# Altium schematic symbol library OT_LoRaWAN_Kit_01.SchLib: 16 symbols
Pins are listed as number, name and electrical type; pins without a type are passive.

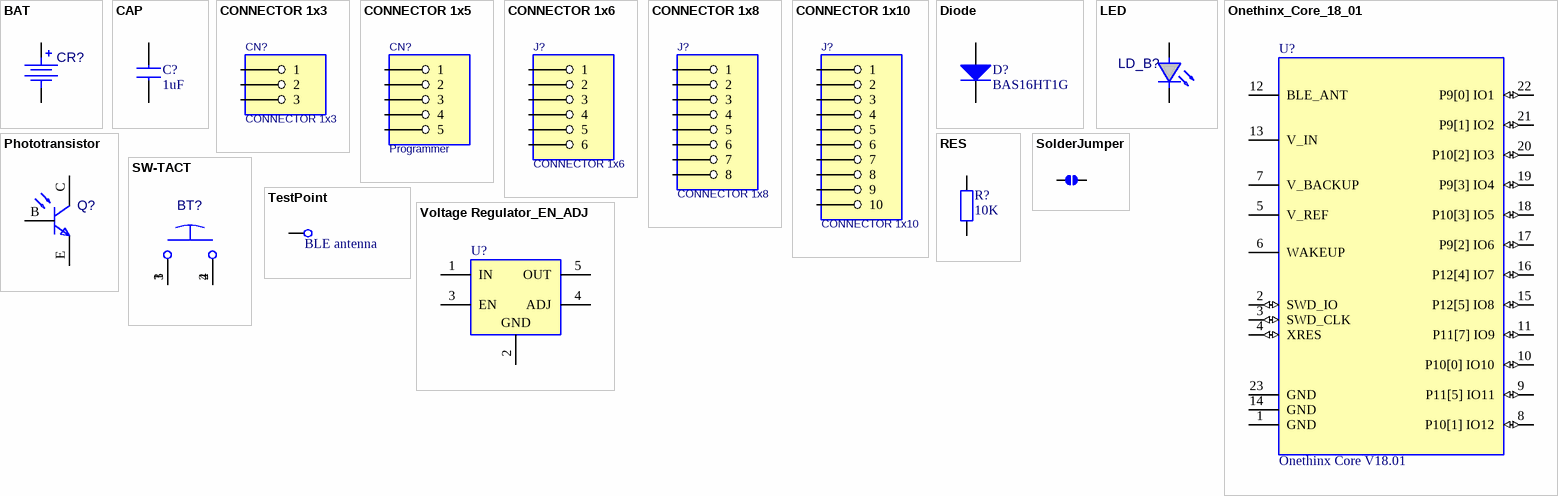
[diagram p0: symbols BAT to Voltage Regulator_EN_ADJ]

## BAT
designator CR?  (value not drawn)
Battery
footprint BATT_2032 clip (Battery CR2032 clip)
footprint BATT_18650 (Battery 18650 w/tabs)
footprint BATT_18650 SMD (Battery 18650 SMD w/tabs)
footprint BATT_651625 SMD (Battery 651625 SMD w/tabs)
footprint BAT_CP1254_Hole (Lithium Coin Cell 3.7V)
footprint BATT_2450 clip (Battery CR2450 clip)
footprint BATT_2450 clip - TH (Battery CR2450 clip)
pins: MINUS Minus, PLUS Plus

## CAP
designator C?, comment 1uF
Capacitor
footprint 0805C-GENERIC (CAPACITOR 0805)
footprint 0402C-SMALL (CAPACITOR 0402 Small Land Pattern)
footprint 1206C-GENERIC
footprint 1210C-GENERIC (CAPACITOR 1210)
footprint CAP_MKP_15 (Capacitor 15mm 17.5x7x13.5)
footprint CAP TH 200mil (Capacitor Through Hole 200mil Pitch)
footprint 0603C-GENERIC (CAPACITOR 0603)
pins: 1, 2

## CONNECTOR 1x3
designator CN?
Harwin M20-9990345
footprint HEADER 2.54 1X3 SMD R1
footprint HEADER 2.54 1X3 SMD R2
footprint SOCKET 2.54 1X3 SMD R1
footprint SOCKET 2.54 1X3 SMD R2
footprint CON JST B3P-VH (3 way 3.96mm)
footprint HEADER-1X3
footprint CON_AMPMODU 3p (CON_AMPMODU 3p 281695-3)
footprint PCB TERMINAL 3P_3.5mm
footprint PCB TERMINAL 3P_5.08mm
pins: 1, 2, 3

## CONNECTOR 1x5
designator CN?, comment Programmer
CON Molex 22053051
footprint HEADER 2.54 1X5 SMD R1 (HEADER 2.54 1X3 SMD R1)
footprint HEADER 2.54 1X5 SMD R2
footprint SOCKET 2.54 1X5 SMD R1
footprint SOCKET 2.54 1X5 SMD R2
footprint CON AK100/5DS-5.0-V (PCB terminal PTR AK100/5DS-5.0-V)
footprint CON 2MM P5_Straight_Boxed_TH
footprint HEADER 2.00 1x5 TH
footprint HEADER-1X5
footprint CON Molex 22053051 (5 way 2.54mm RA TH)
pins: 1, 2, 3, 4, 5

## CONNECTOR 1x6
designator J?
footprint Molex 908160006
footprint HEADER 2.54 1X6 SMD R1
footprint HEADER 2.54 1X6 SMD R2
footprint SOCKET 2.54 1X6 SMD R1
footprint SOCKET 2.54 1X6 SMD R2
footprint CON AK100/6DS-5.0-V (PCB terminal PTR AK100/06DS-5.0-V)
footprint HEADER 2.00 1x6 TH
footprint CON TE 0-188275-6 (TE connector 0-188275-6)
footprint HEADER-1X6
footprint SOCKET 2.54 1X6 TH
pins: 1, 2, 3, 4, 5, 6

## CONNECTOR 1x8
designator J?
footprint HEADER-1X8
footprint Wurth 691 313 510 008 (Serie 313 - 5.08mm Close Horizontal PCB Header WR-TBL)
footprint SOCKET 2.54 1X8 TH
pins: 1, 2, 3, 4, 5, 6, 7, 8

## CONNECTOR 1x10
designator J?
footprint HEADER 2.54 1X10 SMD R1
footprint HEADER 2.54 1X10 SMD R2 (Footprint not found)
footprint HEADER-1X10
footprint SOCKET 2.54 1X10 TH
pins: 1, 2, 3, 4, 5, 6, 7, 8, 9, 10

## Diode
designator D?, comment BAS16HT1G
Diode
footprint SOD80C (Metal Electrode Face (MELF) Diode; Body 3.5 x 1.6 mm (LxDia))
footprint DO-214AA SMB (Diode SMB case)
footprint DO-213AB MELF (Diode DO-213AB MELF case)
footprint SOD323
pins: A, K

## LED
designator LD_B?, comment LD P12_4  (value not drawn)
Wurth 150060BS73220
footprint LED SMD PLCC-2 (LED PLCC-2)
footprint LED TH 3mm (Led Through Hole 5mm)
footprint LED TH 5mm (Led Through Hole 5mm)
footprint LED TH 5mm RA (Led Through Hole 5mm Right Angled)
footprint LED SMD SV-2.2X1.2 (LED side)
footprint LED SMD 0603 (1608) (LED 0603)
pins: A, K

## Onethinx_Core_18_01
designator U?, comment Onethinx Core V18.01
PSoC Mixed Signal Array
footprint OnethinxCore_18_01 (Onethinx LoRaWAN Core V18.01)
pins: 1 GND, 2 SWD_IO (io), 3 SWD_CLK (io), 4 XRES (io), 5 V_REF, 6 WAKEUP, 7 V_BACKUP, 8 P10[1] IO12 (io), 9 P11[5] IO11 (io), 10 P10[0] IO10 (io), 11 P11[7] IO9 (io), 12 BLE_ANT, 13 V_IN, 14 GND, 15 P12[5] IO8 (io), 16 P12[4] IO7 (io), 17 P9[2] IO6 (io), 18 P10[3] IO5 (io), 19 P9[3] IO4 (io), 20 P10[2] IO3 (io), 21 P9[1] IO2 (io), 22 P9[0] IO1 (io), 23 GND

## Phototransistor
designator Q?, comment Q1 P10_3  (value not drawn)
Phototransistor Vishay VEMT4700-GS08
footprint PLCC-3_CEB
pins: B, C, E

## RES
designator R?, comment 10K
Resistor
footprint 0805R-GENERIC (RESISTOR 0805)
footprint 2512R-GENERIC (RESISTOR 2512)
footprint 1218R-GENERIC (RESISTOR 1218)
footprint 1210R-GENERIC (RESISTOR 1210)
footprint 1206R-GENERIC (RESISTOR 1206)
footprint 0402R-SMALL (RESISTOR 0402 Small Land Pattern)
footprint 0603R-GENERIC (RESISTOR 0603)
footprint 0204R-SMALL (RESISTOR 0204 Reversed Geometry)
pins: 1, 2

## SolderJumper
designator JMP?, comment SWD to shield  (value not drawn)  (no BOM)
footprint SOLDER JUMPER (Solder Jumper 2mm)
pins: A, B

## SW-TACT
designator BT?, comment BT P0_4  (value not drawn)
FSM4JH
footprint BUTTON TACT6x6 (Tact Switch 6x6 mm)
footprint BUTTON_D6R (Momentary Key Switch)
pins: 1, 2, 3, 4

## TestPoint
designator TP_BLE?, comment BLE antenna
Test Point
footprint TestPoint 2mm (Test Point 2mm)
footprint CardEdge Strip TOP (CardEdge Strip TOP 1.4mm wide)
footprint CardEdge Strip BOT (CardEdge Strip BOT 1.4mm wide)
footprint TestPoint 1mm - top (Test Point 2mm top)
footprint TestPoint 1mm - top TH (Test Point 1mm top TH)
footprint TestPoint 3mm round (Test Point 3mm round)
footprint TestPoint 2mm round (Test Point 2mm round)
footprint CON_PAD 2.7MM (Connection Pad 2.7mm)
footprint CON_PAD 2.3MM (Footprint not found)
footprint CON_PAD_EDGE
footprint CON_PAD_EDGE 2
pins: 1

## Voltage Regulator_EN_ADJ
designator U?, comment TPS78330DDC  (value not drawn)
footprint SOT-23-5
footprint MSOP-8 - PowerPad (SOIC, 8-Leads, Body 4.9x3.9mm, Pitch 1.27mm, IPC Medium Density)
pins: 1 IN (power), 2 GND (power), 3 EN (power), 4 ADJ (power), 5 OUT (power)